# EAGLE library part STP04CM05XTTR (library Protofusion)
Linear LED Driver (UNPROVEN!)
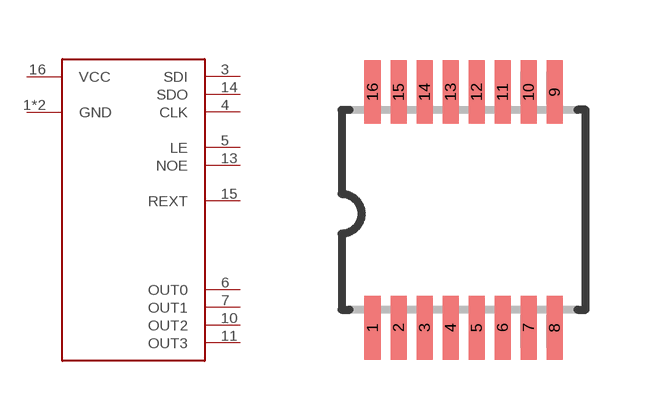
[diagram p2: symbol with the pads of TSSOP16; footprint TSSOP16]

Designator prefix -

## STP04CM05XTTR  [TSSOP16]
1  GND
2  GND
3  SDI
4  CLK
5  LE
6  OUT0
7  OUT1
10  OUT2
11  OUT3
13  NOE
14  SDO
15  REXT
16  VCC

## Footprint TSSOP16 (pad centres in mm)
smd 0.4 x 1.6: 1 -2.225,-2.85; 2 -1.575,-2.85; 3 -0.925,-2.85; 4 -0.275,-2.85; 5 0.375,-2.85; 6 1.025,-2.85; 7 1.675,-2.85; 8 2.325,-2.85; 9 2.325,3.05; 10 1.675,3.05; 11 1.025,3.05; 12 0.375,3.05; 13 -0.275,3.05; 14 -0.925,3.05; 15 -1.575,3.05; 16 -2.225,3.05